# EAGLE library part LT3489 (library PowerProducts)
LT-Spice library generated with : ltspice.ulp from: E:/Programme/LTC/LTspiceIV/lib/sym/PowerProducts/LT3491*.asy at 05.10.2012 11:23:19
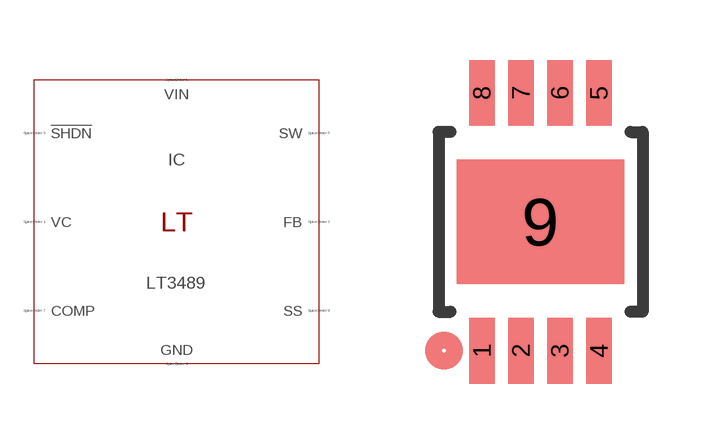
[diagram p57: symbol with the pads of MSOP8(MS8E); footprint MSOP8(MS8E)]

Designator prefix IC

## LT3489 (SPICEMODEL: LT1762.lib; SPICEPREFIX: X; VALUE2: LT1762)  [MSOP8(MS8E)]
1  VC  pas
2  FB  pas
3  !SHDN  pas
4  GND  pas
5  SW  pas
6  VIN  pas
7  COMP  pas
8  SS  pas
9  GND  pas

## Footprint MSOP8(MS8E) (pad centres in mm)
Package generated from: MSOP8(MS8E).asc (!PADS-POWERPCB-V9.3-BASIC! DESIGN DATABASE ASCII FILE 1.0) with :import-pads-powerpcb-v5.ulp Version 1.0.1 at 04.10.2012 14:11:20
smd 0.63 x 1.65: 1 -1.462,-3.225; 2 -0.487,-3.225; 3 0.487,-3.225; 4 1.462,-3.225; 5 1.462,3.225; 6 0.487,3.225; 7 -0.487,3.225; 8 -1.462,3.225
smd 4.191 x 3.124: 9 0,0